# Altium schematic symbol library WE-CMB HV.SchLib: 10 symbols
Pins are listed as number, name and electrical type; pins without a type are passive.

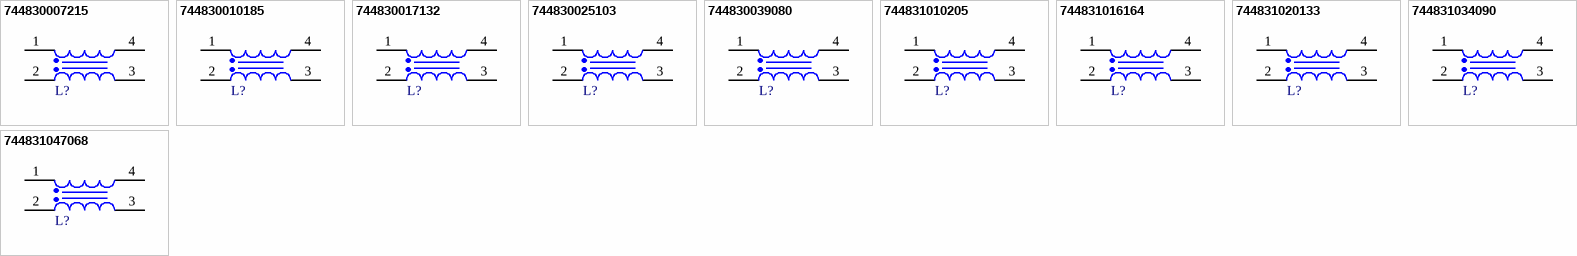
[diagram p0: symbols 744830007215 to 744831047068]

## 744830007215
designator L?, comment 0.7mH  (value not drawn)
WE-CMB HV Common Mode Power Line Choke, THT, Type XL, 0.7mH, 21.5A, 3.8mOhm; Manufacturer Part Number: 744830007215; Manufacturer: Wurth Elektronik; Case/Size Code: Type XL; Insulation Test Voltage (AC): 3000V; Material: MnZn; Rated Voltage (AC): 760V; Category: Common Mode Chokes; Match Code: WE-CMB HV; ComponentLink1Description: Website Link; ComponentLink1URL: https://www.we-online.com/redexpert/article/744830007215?ad; ComponentLink2Description: Datasheet Link; ComponentLink2URL: https://www.we-online.com/redexpert/spec/744830007215?ad; Mount: Through Hole; Operating Temperature Max: 125°C; Operating Temperature Min: -40°C; Packaging: Tray; Length: 42.5mm; Width: 23mm; Height: 39.5mm; DC Resistance Max: 3.8mOhm; Inductance: 0.7mH; Rated Current: 21.5A
footprint WE-CMB HV_Type XL_744830007215
simulation model XL_744830007215_0.7m
pins: 1, 2, 3, 4

## 744830010185
designator L?, comment 1mH  (value not drawn)
WE-CMB HV Common Mode Power Line Choke, THT, Type XL, 1mH, 18.5A, 5.5mOhm; Manufacturer Part Number: 744830010185; Manufacturer: Wurth Elektronik; Case/Size Code: Type XL; Insulation Test Voltage (AC): 3000V; Material: MnZn; Rated Voltage (AC): 760V; Category: Common Mode Chokes; Match Code: WE-CMB HV; ComponentLink1Description: Website Link; ComponentLink1URL: https://www.we-online.com/redexpert/article/744830010185?ad; ComponentLink2Description: Datasheet Link; ComponentLink2URL: https://www.we-online.com/redexpert/spec/744830010185?ad; Mount: Through Hole; Operating Temperature Max: 125°C; Operating Temperature Min: -40°C; Packaging: Tray; Length: 41.5mm; Width: 23mm; Height: 39.5mm; DC Resistance Max: 5.5mOhm; Inductance: 1mH; Rated Current: 18.5A
footprint WE-CMB HV_Type XL_744830010185
simulation model XL_744830010185_1m
pins: 1, 2, 3, 4

## 744830017132
designator L?, comment 1.7mH  (value not drawn)
WE-CMB HV Common Mode Power Line Choke, THT, Type XL, 1.7mH, 13.2A, 10mOhm; Manufacturer Part Number: 744830017132; Manufacturer: Wurth Elektronik; Case/Size Code: Type XL; Insulation Test Voltage (AC): 3000V; Material: MnZn; Rated Voltage (AC): 760V; Category: Common Mode Chokes; Match Code: WE-CMB HV; ComponentLink1Description: Website Link; ComponentLink1URL: https://www.we-online.com/redexpert/article/744830017132?ad; ComponentLink2Description: Datasheet Link; ComponentLink2URL: https://www.we-online.com/redexpert/spec/744830017132?ad; Mount: Through Hole; Operating Temperature Max: 125°C; Operating Temperature Min: -40°C; Packaging: Tray; Length: 40mm; Width: 23mm; Height: 39.5mm; DC Resistance Max: 10mOhm; Inductance: 1.7mH; Rated Current: 13.2A
footprint WE-CMB HV_Type XL_744830017132
simulation model XL_744830017132_1.7m
pins: 1, 2, 3, 4

## 744830025103
designator L?, comment 2.5mH  (value not drawn)
WE-CMB HV Common Mode Power Line Choke, THT, Type XL, 2.5mH, 10.3A, 18mOhm; Manufacturer Part Number: 744830025103; Manufacturer: Wurth Elektronik; Case/Size Code: Type XL; Insulation Test Voltage (AC): 3000V; Material: MnZn; Rated Voltage (AC): 760V; Category: Common Mode Chokes; Match Code: WE-CMB HV; ComponentLink1Description: Website Link; ComponentLink1URL: https://www.we-online.com/redexpert/article/744830025103?ad; ComponentLink2Description: Datasheet Link; ComponentLink2URL: https://www.we-online.com/redexpert/spec/744830025103?ad; Mount: Through Hole; Operating Temperature Max: 125°C; Operating Temperature Min: -40°C; Packaging: Tray; Length: 39.5mm; Width: 23mm; Height: 39.5mm; DC Resistance Max: 18mOhm; Inductance: 2.5mH; Rated Current: 10.3A
footprint WE-CMB HV_Type XL_744830025103
simulation model XL_744830025103_2.5m
pins: 1, 2, 3, 4

## 744830039080
designator L?, comment 3.9mH  (value not drawn)
WE-CMB HV Common Mode Power Line Choke, THT, Type XL, 3.9mH, 8A, 31mOhm; Manufacturer Part Number: 744830039080; Manufacturer: Wurth Elektronik; Case/Size Code: Type XL; Insulation Test Voltage (AC): 3000V; Material: MnZn; Rated Voltage (AC): 760V; Category: Common Mode Chokes; Match Code: WE-CMB HV; ComponentLink1Description: Website Link; ComponentLink1URL: https://www.we-online.com/redexpert/article/744830039080?ad; ComponentLink2Description: Datasheet Link; ComponentLink2URL: https://www.we-online.com/redexpert/spec/744830039080?ad; Mount: Through Hole; Operating Temperature Max: 125°C; Operating Temperature Min: -40°C; Packaging: Tray; Length: 39.5mm; Width: 23mm; Height: 39.5mm; DC Resistance Max: 31mOhm; Inductance: 3.9mH; Rated Current: 8A
footprint WE-CMB HV_Type XL_744830039080
simulation model XL_744830039080_3.9m
pins: 1, 2, 3, 4

## 744831010205
designator L?, comment 1mH  (value not drawn)
WE-CMB HV Common Mode Power Line Choke, THT, Type XXL, 1mH, 20.5A, 5.5mOhm; Manufacturer Part Number: 744831010205; Manufacturer: Wurth Elektronik; Insulation Test Voltage (AC): 3000V; Material: MnZn; Rated Voltage (AC): 760V; Category: Common Mode Chokes; Match Code: WE-CMB HV; ComponentLink1Description: Website Link; ComponentLink1URL: https://www.we-online.com/redexpert/article/744831010205?ad; ComponentLink2Description: Datasheet Link; ComponentLink2URL: https://www.we-online.com/redexpert/spec/744831010205?ad; Mount: Through Hole; Operating Temperature Max: 125°C; Operating Temperature Min: -40°C; Packaging: Tray; Case/Size Code: Type XXL; Length: 46.5mm; Width: 28mm; Height: 44.5mm; DC Resistance Max: 5.5mOhm; Inductance: 1mH; Rated Current: 20.5A
footprint WE-CMB HV_Type XXL_744831010205
simulation model XXL_744831010205_1m
pins: 1, 2, 3, 4

## 744831016164
designator L?, comment 1.6mH  (value not drawn)
WE-CMB HV Common Mode Power Line Choke, THT, Type XXL, 1.6mH, 16.4A, 8.5mOhm; Manufacturer Part Number: 744831016164; Manufacturer: Wurth Elektronik; Insulation Test Voltage (AC): 3000V; Material: MnZn; Rated Voltage (AC): 760V; Category: Common Mode Chokes; Match Code: WE-CMB HV; ComponentLink1Description: Website Link; ComponentLink1URL: https://www.we-online.com/redexpert/article/744831016164?ad; ComponentLink2Description: Datasheet Link; ComponentLink2URL: https://www.we-online.com/redexpert/spec/744831016164?ad; Mount: Through Hole; Operating Temperature Max: 125°C; Operating Temperature Min: -40°C; Packaging: Tray; Case/Size Code: Type XXL; Length: 46.5mm; Width: 28mm; Height: 44.5mm; DC Resistance Max: 8.5mOhm; Inductance: 1.6mH; Rated Current: 16.4A
footprint WE-CMB HV_Type XXL_744831016164
simulation model XXL_744831016164_1.6m
pins: 1, 2, 3, 4

## 744831020133
designator L?, comment 2mH  (value not drawn)
WE-CMB HV Common Mode Power Line Choke, THT, Type XXL, 2mH, 13.3A, 13mOhm; Manufacturer Part Number: 744831020133; Manufacturer: Wurth Elektronik; Insulation Test Voltage (AC): 3000V; Material: MnZn; Rated Voltage (AC): 760V; Category: Common Mode Chokes; Match Code: WE-CMB HV; ComponentLink1Description: Website Link; ComponentLink1URL: https://www.we-online.com/redexpert/article/744831020133?ad; ComponentLink2Description: Datasheet Link; ComponentLink2URL: https://www.we-online.com/redexpert/spec/744831020133?ad; Mount: Through Hole; Operating Temperature Max: 125°C; Operating Temperature Min: -40°C; Packaging: Tray; Case/Size Code: Type XXL; Length: 45.5mm; Width: 28mm; Height: 44.5mm; DC Resistance Max: 13mOhm; Inductance: 2mH; Rated Current: 13.3A
footprint WE-CMB HV_Type XXL_744831020133
simulation model XXL_744831020133_2m
pins: 1, 2, 3, 4

## 744831034090
designator L?, comment 3.4mH  (value not drawn)
WE-CMB HV Common Mode Power Line Choke, THT, Type XXL, 3.4mH, 9A, 27mOhm; Manufacturer Part Number: 744831034090; Manufacturer: Wurth Elektronik; Insulation Test Voltage (AC): 3000V; Material: MnZn; Rated Voltage (AC): 760V; Category: Common Mode Chokes; Match Code: WE-CMB HV; ComponentLink1Description: Website Link; ComponentLink1URL: https://www.we-online.com/redexpert/article/744831034090?ad; ComponentLink2Description: Datasheet Link; ComponentLink2URL: https://www.we-online.com/redexpert/spec/744831034090?ad; Mount: Through Hole; Operating Temperature Max: 125°C; Operating Temperature Min: -40°C; Packaging: Tray; Case/Size Code: Type XXL; Length: 44.5mm; Width: 28mm; Height: 44.5mm; DC Resistance Max: 27mOhm; Inductance: 3.4mH; Rated Current: 9A
footprint WE-CMB HV_Type XXL_744831034090
simulation model XXL_744831034090_3.4m
pins: 1, 2, 3, 4

## 744831047068
designator L?, comment 4.7mH  (value not drawn)
WE-CMB HV Common Mode Power Line Choke, THT, Type XXL, 4.7mH, 6.8A, 44mOhm; Manufacturer Part Number: 744831047068; Manufacturer: Wurth Elektronik; Insulation Test Voltage (AC): 3000V; Material: MnZn; Rated Voltage (AC): 760V; Category: Common Mode Chokes; Match Code: WE-CMB HV; ComponentLink1Description: Website Link; ComponentLink1URL: https://www.we-online.com/redexpert/article/744831047068?ad; ComponentLink2Description: Datasheet Link; ComponentLink2URL: https://www.we-online.com/redexpert/spec/744831047068?ad; Mount: Through Hole; Operating Temperature Max: 125°C; Operating Temperature Min: -40°C; Packaging: Tray; Case/Size Code: Type XXL; Length: 44.5mm; Width: 28mm; Height: 44.5mm; DC Resistance Max: 44mOhm; Inductance: 4.7mH; Rated Current: 6.8A
footprint WE-CMB HV_Type XXL_744831047068
simulation model XXL_744831047068_4.7m
pins: 1, 2, 3, 4